# EAGLE library part 677006144521 (library Wuerth_Elektronik_eiCan_Communication_Connectors_STENCIL)
WR-COM Horizontal Receptacle IEEE 1394 / Fire Wire, 6 pins
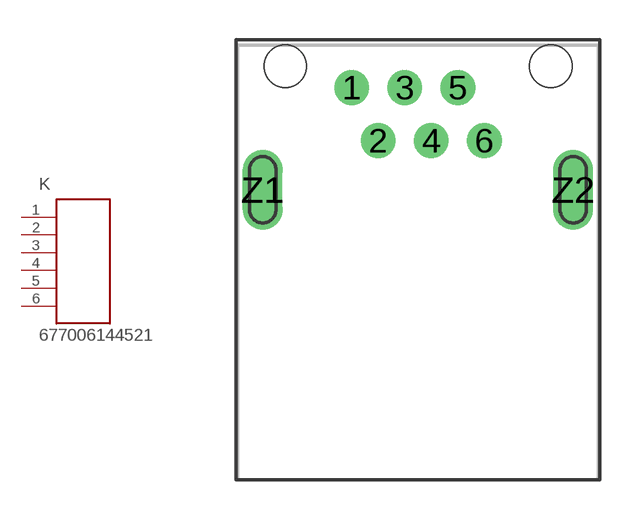
[diagram p4: symbol with the pads of 677006144521; footprint 677006144521]

Designator prefix K

## 677006144521  [677006144521]
1  1  pas
2  2  pas
3  3  pas
4  4  pas
5  5  pas
6  6  pas

## Footprint 677006144521 (pad centres in mm)
WR-COM Horizontal Receptacle IEEE 1394 / Fire Wire, 6 pins
drill 0.8: 1 -2.5,1; 2 -1.5,-1; 3 -0.5,1; 4 0.5,-1; 5 1.5,1; 6 2.5,-1
drill 1 long: Z1 -5.85,-2.85; Z2 5.85,-2.85
hole 1.6 at -5,1.8
hole 1.6 at 5,1.8